# Altium schematic symbol library 4.1   - 接口类.SchLib: 17 symbols
Pins are listed as number, name and electrical type; pins without a type are passive.

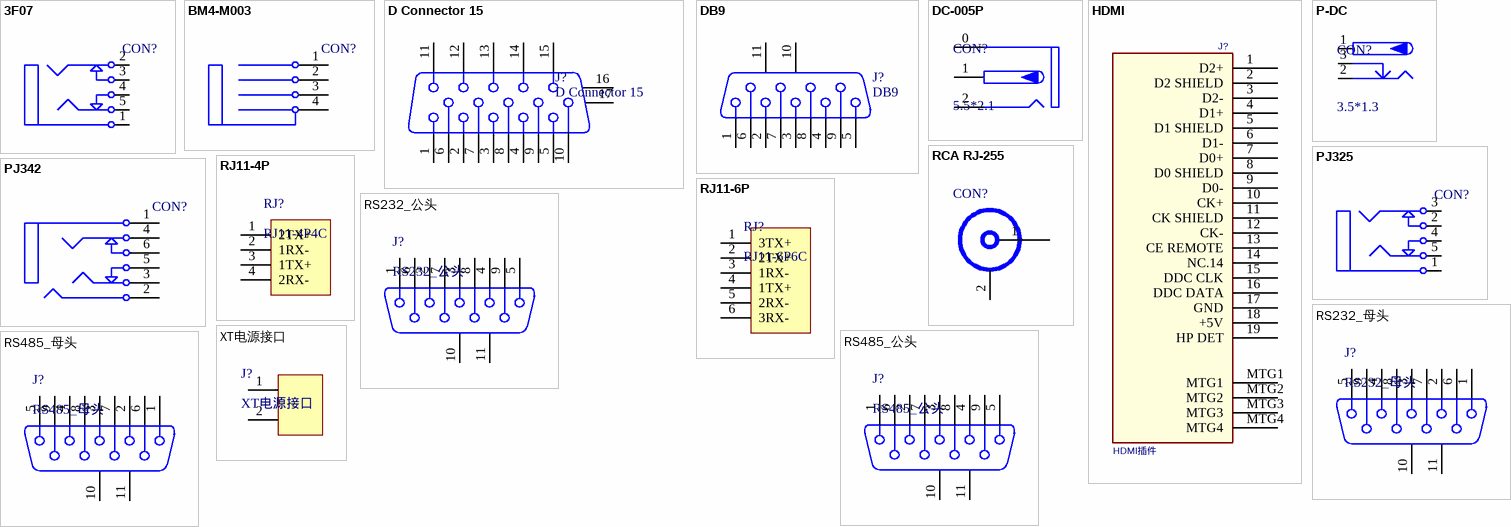
[diagram p0: symbols 3F07 to XT电源接口]

## 3F07
designator CON?, comment 3F07_BK  (value not drawn)
3.5mm耳机插座; BOM名称: 耳机插座; 版权归属: 源创客; 学习资源: www.ooocke.com
footprint 3F07_BK (黑色，14.2*12*5mm)
footprint 3F07_G (绿色，14.2*12*5mm)
footprint 3F07_PK (粉色，14.2*12*5mm)
pins: 1, 2, 3, 4, 5

## BM4-M003
designator CON?  (value not drawn)
宝马头板端弯头; 版权归属: 源创客; BOM名称: 宝马头板端弯头; 学习资源: www.ooocke.com
footprint BM4-M003-BK (宝马头板端弯头（黑色）)
footprint BM4-M003-R (宝马头板端弯头（红色）)
footprint BM4-M003-G (宝马头板端弯头（绿色）)
footprint BM4-M003-B (宝马头板端弯头（蓝色）)
footprint BM4-M003-Y (宝马头板端弯头（黄色）)
pins: 1, 2, 3, 4

## D Connector 15
designator J?
VGA通讯端口; 版权归属: 源创客; 学习资源: www.ooocke.com; BOM名称: VGA通讯端口
footprint VGA15b (15针通讯接口)
footprint VGA15A (15针通讯接口)
pins: 1, 2, 3, 4, 5, 6, 7, 8, 9, 10, 11, 12, 13, 14, 15, 16 MH2, 17 MH1

## DB9
designator J?
9针串口; 版权归属: 源创客; BOM名称: 9针串口; 学习资源: www.ooocke.com
footprint DB9/S_A (9针母头串口,31*18.5*12.5mm)
footprint DB9/P_A (9针公头串口,31*18.5*12.5mm)
pins: 1, 2, 3, 4, 5, 6, 7, 8, 9, 10 MH1, 11 MH2

## DC-005P
designator CON?, comment 5.5*2.1
带屏蔽DC电源接口; 版权归属: 源创客; BOM名称: 带屏蔽DC电源接口; 学习资源: www.ooocke.com
footprint DC-005P (13mm*10mm*10mm(长*宽*高))
pins: 0 (power), 1 (power), 2 (power)

## HDMI
designator J?, comment HDMI插件
HDMI母头; Part: 0471510001; Manufacturer: Molex Inc; ComnentNum: *; Note: *; Category: HDMI插件
footprint HDMI (HDMI 14mm)
pins: 1 D2+, 2 D2 SHIELD, 3 D2-, 4 D1+, 5 D1 SHIELD, 6 D1-, 7 D0+, 8 D0 SHIELD, 9 D0-, 10 CK+, 11 CK SHIELD, 12 CK-, 13 CE REMOTE, 14 NC.14, 15 DDC CLK, 16 DDC DATA, 17 GND, 18 +5V, 19 HP DET, MTG1, MTG2, MTG3, MTG4

## P-DC
designator CON?, comment 3.5*1.3
低压电源接口; BOM名称: DC电源接口; 版权归属: 源创客; 学习资源: www.ooocke.com
footprint DC-012 (5.5*2.1)
footprint DC-005 (5.5*2.1mm，DC30V,2.5A)
footprint DC-002 (3.5*1.1mm,)
footprint DC-003 (3.5*1.1mm)
footprint DC-003A (3.5*1.1mm)
footprint DC-050 (5.5*2.1)
footprint DC-044
pins: 1 (power), 2 (power), 3 (power)

## PJ325
designator CON?, comment PJ325_BK  (value not drawn)
3.5mm耳机插座; BOM名称: 耳机插座; 版权归属: 源创客; 学习资源: www.ooocke.com
footprint PJ325_BK (黑色，18*8.1*12.3mm)
footprint PJ325_YE (黄色，18*8.1*12.3mm)
footprint PJ325_G (绿色，18*8.1*12.3mm)
footprint PJ325_B (蓝色，18*8.1*12.3mm)
footprint PJ325_PK (粉色，18*8.1*12.3mm)
pins: 1, 2, 3, 4, 5

## PJ342
designator CON?  (value not drawn)
3.5耳机插座,4Pin; BOM名称: 耳机插座; 版权归属: 源创客; 学习资源: www.ooocke.com
footprint PJ342A (有头)
footprint PJ342B (沉板式，无头)
pins: 1, 2, 3, 4, 5, 6

## RCA RJ-255
designator CON?  (value not drawn)
RCA莲花头AV座; 版权归属: 源创客; BOM名称: RCA莲花头AV座; 学习资源: www.ooocke.com
footprint RCA RJ-255 (RCA莲花头AV接口座)
pins: 1, 2

## RJ11-4P
designator RJ?, comment RJ11-4P4C
电话接口; 版权归属: 源创客; BOM名称: 电话接口; 学习资源: www.ooocke.com
footprint RJ11-4P4C-LI-BK (16.5mm*13.8mm*16.38mm(长*宽*高))
footprint RJ11-4P4C-LI-GY (16.5mm*13.8mm*16.38mm(长*宽*高))
pins: 1 2TX+, 2 1RX-, 3 1TX+, 4 2RX-

## RJ11-6P
designator RJ?, comment RJ11-6P6C
电话接口; 版权归属: 源创客; BOM名称: 电话接口; 学习资源: www.ooocke.com
footprint RJ11-6P6C-GY (Footprint not found)
footprint RJ11-6P6C-BK (15mm*12mm*14.55mm(长*宽*高))
pins: 1 3TX+, 2 2TX+, 3 1RX-, 4 1TX+, 5 2RX-, 6 3RX-

## RS232_公头
designator J?
footprint RS232/485公头
footprint RS232/485公头  180
pins: 1, 2, 3, 4, 5, 6, 7, 8, 9, 10 MH1, 11 MH2

## RS232_母头
designator J?
footprint RS232/485母头
pins: 1, 2, 3, 4, 5, 6, 7, 8, 9, 10 MH1, 11 MH2

## RS485_公头
designator J?
footprint RS232/485公头
pins: 1, 2, 3, 4, 5, 6, 7, 8, 9, 10 MH1, 11 MH2

## RS485_母头
designator J?
footprint RS232/485母头
pins: 1, 2, 3, 4, 5, 6, 7, 8, 9, 10 MH1, 11 MH2

## XT电源接口
designator J?
footprint TX60-LI-P (长：16mm，宽：8.2mm，高：16mm)
footprint TX60-LI-S (长：16mm，宽：8.2mm，高：16mm)
footprint TX60PW-F20 (长：18.8mm， 宽：16mm，高：8.6mm)
footprint TX60PW-M20 (长：18.8mm， 宽：16mm，高：8.6mm)
pins: 1, 2